# Altium schematic symbol library SCH_Sound.SchLib: 1 symbol
Pins are listed as number, name and electrical type; pins without a type are passive.

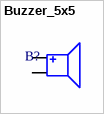
[diagram p0: symbol Buzzer_5x5]

## Buzzer_5x5
designator B?, comment Buzzer  (value not drawn)
Specification: 5.0x5.0mm; Value: *; Type: SMD3; Link: *; Note: *; Manufacturer: *; Datasheet: *
footprint Buzzer_5.0x5.0x2.0
pins: N Negative, P Positive